# EAGLE library part 2-5174339-5 (library EW_Connectors)
CONN D-TYPE CAP 68POS VERT SLDR
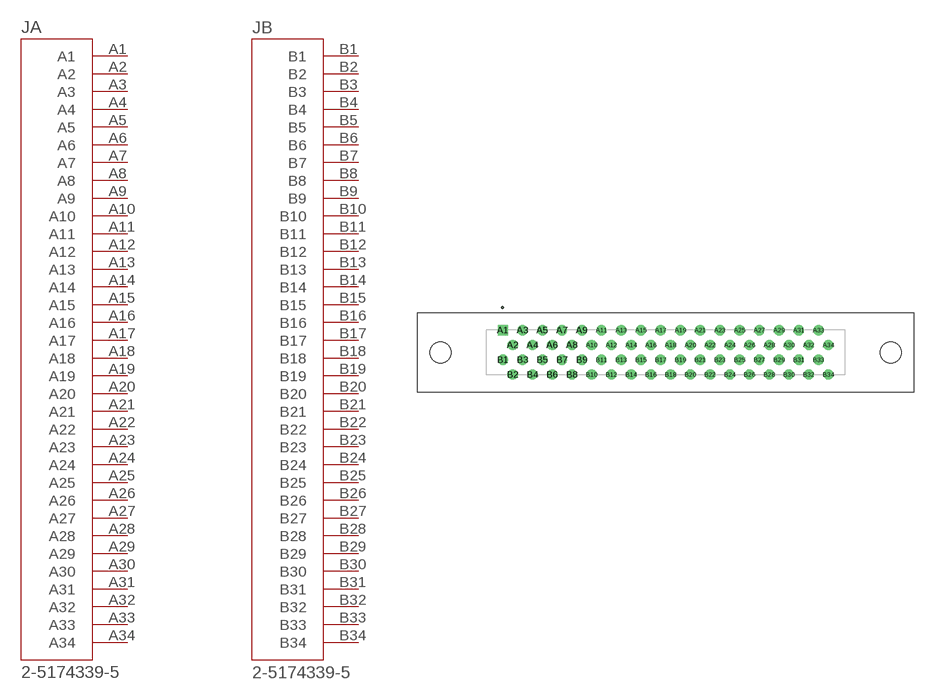
[diagram p6: symbol with the pads of CONN_2-5174339-5; footprint CONN_2-5174339-5]

Designator prefix J; gates A=2-5174339-5_SECTION1 B=2-5174339-5_SECTION2

## 2-5174339-5 (CENTERLINE_PITCH: 1.27 mm[.05 in]; COMMENT: 2-5174339-5; DESCRIPTION: AMPLIMITE CAP HEADER; DIGI-KEY_PART_NUMBER: A121355-ND; DIGI-KEY_PURCHASE_URL: https://www.digikey.co.uk/product-detail/en/te-connectivity-amp-connectors/2-5174339-5/A121355-ND/1835651?utm_source=snapeda&utm_medium=aggregator&utm_campaign=symbol; MF: TE Connectivity; MP: 2-5174339-5; NUMBER_OF_POSITIONS: 68; PACKAGE: None; PRODUCT_TYPE: Connector; TE_PURCHASE_URL: https://www.te.com/usa-en/product-2-5174339-5.html?te_bu=Cor&te_type=disp&te_campaign=seda_glo_cor-seda-global-disp-prtnr-fy19-seda-model-bom-cta_sma-317_1&elqCampaignId=32493)  [CONN_2-5174339-5]
A1  A:A1  pas
A2  A:A2  pas
A3  A:A3  pas
A4  A:A4  pas
A5  A:A5  pas
A6  A:A6  pas
A7  A:A7  pas
A8  A:A8  pas
A9  A:A9  pas
A10  A:A10  pas
A11  A:A11  pas
A12  A:A12  pas
A13  A:A13  pas
A14  A:A14  pas
A15  A:A15  pas
A16  A:A16  pas
A17  A:A17  pas
A18  A:A18  pas
A19  A:A19  pas
A20  A:A20  pas
A21  A:A21  pas
A22  A:A22  pas
A23  A:A23  pas
A24  A:A24  pas
A25  A:A25  pas
A26  A:A26  pas
A27  A:A27  pas
A28  A:A28  pas
A29  A:A29  pas
A30  A:A30  pas
A31  A:A31  pas
A32  A:A32  pas
A33  A:A33  pas
A34  A:A34  pas
B1  B:B1  pas
B2  B:B2  pas
B3  B:B3  pas
B4  B:B4  pas
B5  B:B5  pas
B6  B:B6  pas
B7  B:B7  pas
B8  B:B8  pas
B9  B:B9  pas
B10  B:B10  pas
B11  B:B11  pas
B12  B:B12  pas
B13  B:B13  pas
B14  B:B14  pas
B15  B:B15  pas
B16  B:B16  pas
B17  B:B17  pas
B18  B:B18  pas
B19  B:B19  pas
B20  B:B20  pas
B21  B:B21  pas
B22  B:B22  pas
B23  B:B23  pas
B24  B:B24  pas
B25  B:B25  pas
B26  B:B26  pas
B27  B:B27  pas
B28  B:B28  pas
B29  B:B29  pas
B30  B:B30  pas
B31  B:B31  pas
B32  B:B32  pas
B33  B:B33  pas
B34  B:B34  pas

## Footprint CONN_2-5174339-5 (pad centres in mm)
drill 0.8 square: A1 -20.955,2.857
drill 0.8: A2 -19.685,0.953; A3 -18.415,2.857; A4 -17.145,0.953; A5 -15.875,2.857; A6 -14.605,0.953; A7 -13.335,2.857; A8 -12.065,0.953; A9 -10.795,2.857; A10 -9.525,0.953; A11 -8.255,2.857; A12 -6.985,0.953; A13 -5.715,2.857; A14 -4.445,0.953; A15 -3.175,2.857; A16 -1.905,0.953; A17 -0.635,2.857; A18 0.635,0.953; A19 1.905,2.857; A20 3.175,0.953; A21 4.445,2.857; A22 5.715,0.953; A23 6.985,2.857; A24 8.255,0.953; A25 9.525,2.857; A26 10.795,0.953; A27 12.065,2.857; A28 13.335,0.953; A29 14.605,2.857; A30 15.875,0.953; A31 17.145,2.857; A32 18.415,0.953; A33 19.685,2.857; A34 20.955,0.953; B1 -20.955,-0.953; B2 -19.685,-2.857; B3 -18.415,-0.953; B4 -17.145,-2.857; B5 -15.875,-0.953; B6 -14.605,-2.857; B7 -13.335,-0.953; B8 -12.065,-2.857; B9 -10.795,-0.953; B10 -9.525,-2.857; B11 -8.255,-0.953; B12 -6.985,-2.857; B13 -5.715,-0.953; B14 -4.445,-2.857; B15 -3.175,-0.953; B16 -1.905,-2.857; B17 -0.635,-0.953; B18 0.635,-2.857; B19 1.905,-0.953; B20 3.175,-2.857; B21 4.445,-0.953; B22 5.715,-2.857; B23 6.985,-0.953; B24 8.255,-2.857; B25 9.525,-0.953; B26 10.795,-2.857; B27 12.065,-0.953; B28 13.335,-2.857; B29 14.605,-0.953; B30 15.875,-2.857; B31 17.145,-0.953; B32 18.415,-2.857; B33 19.685,-0.953; B34 20.955,-2.857
hole 2.7 at -28.955,0
hole 2.7 at 28.955,0